# EAGLE library part 9-1393792-9 (library Relays)
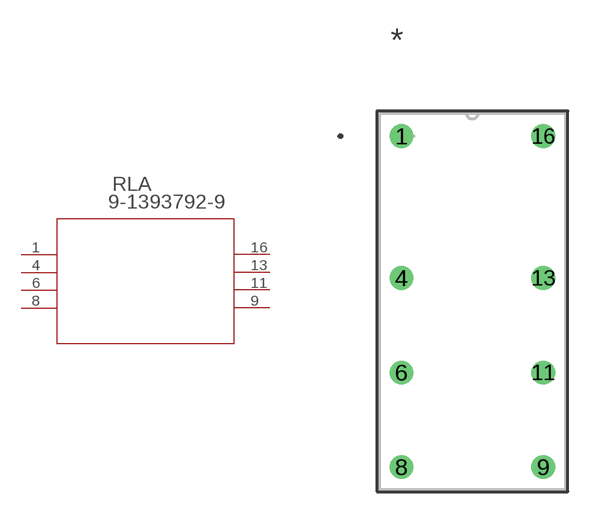
[diagram p70: symbol with the pads of RELAY4_9-1393792; footprint RELAY4_9-1393792]

Designator prefix RLA

## 9-1393792-9 (BUILT_BY: EMA_Justin; CATEGORY: Signal Relays; CONTACT_ARRANGEMENT: 2 Form C (CO); COPYRIGHT: Copyright (C) 2016 Accelerated Designs. All rights reserved; DATASHEET: https://www.te.com/commerce/DocumentDelivery/DDEController?Action=showdoc&DocId=Customer+Drawing%7F1393792-2%7FA9%7Fpdf%7FEnglish%7FENG_CD_1393792-2_A9.pdf%7F9-1393792-9; DESCRIPTION: V23105A5305A201; MANUFACTURER_PART_NUMBER: V23105A5305A201; MAXIMUM_SWITCHING_CURRENT: -; MAXIMUM_SWITCHING_VOLTAGE: -; PART_STATUS: active; PRODUCT_TYPE: Relay; RELAY_TYPE: D2n Relay V23105; SERIES: Axicom D2n Relay; TE_PART_NUMBER: V23105A5305A201 (9-1393792-9); VENDOR: TE Connectivity)  [RELAY4_9-1393792]
1  1  pas
4  4  pas
6  6  pas
8  8  pas
9  9  pas
11  11  pas
13  13  pas
16  16  pas

## Footprint RELAY4_9-1393792 (pad centres in mm)
drill 0.762 pad 1.27: 1 -7.62,17.755; 4 -7.62,10.135; 6 -7.62,5.055; 8 -7.62,-0.025; 9 0,-0.025; 11 0,5.055; 13 0,10.135; 16 0,17.755